# EAGLE library part STM8S105C (library st-microelectronics)
Access line, 16 MHz STM8S 8-bit MCU up to 32 Kbytes Flash, integrated EEPROM,10-bit ADC, timers, UART, SPI, I²C Source: Data sheet <http://www.st.com/stonline/products/literature/ds/14771/stm8s105c4.pdf>
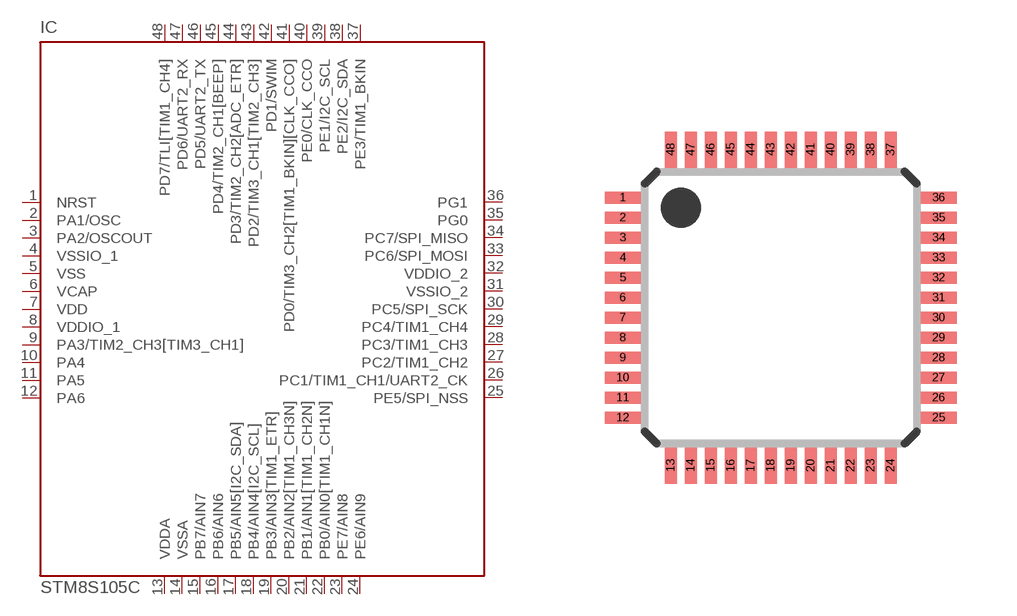
[diagram p42: symbol with the pads of LQFP48-7X7; footprint LQFP48-7X7]

Designator prefix IC

## STM8S105C4, STM8S105C6  [LQFP48-7X7]
1  NRST
2  PA1/OSC
3  PA2/OSCOUT
4  VSSIO_1  pwr
5  VSS  pwr
6  VCAP  pwr
7  VDD  pwr
8  VDDIO_1  pwr
9  PA3/TIM2_CH3[TIM3_CH1]
10  PA4
11  PA5
12  PA6
13  VDDA  pwr
14  VSSA  pwr
15  PB7/AIN7
16  PB6/AIN6
17  PB5/AIN5[I2C_SDA]
18  PB4/AIN4[I2C_SCL]
19  PB3/AIN3[TIM1_ETR]
20  PB2/AIN2[TIM1_CH3N]
21  PB1/AIN1[TIM1_CH2N]
22  PB0/AIN0[TIM1_CH1N]
23  PE7/AIN8
24  PE6/AIN9
25  PE5/SPI_NSS
26  PC1/TIM1_CH1/UART2_CK
27  PC2/TIM1_CH2
28  PC3/TIM1_CH3
29  PC4/TIM1_CH4
30  PC5/SPI_SCK
31  VSSIO_2  pwr
32  VDDIO_2  pwr
33  PC6/SPI_MOSI
34  PC7/SPI_MISO
35  PG0
36  PG1
37  PE3/TIM1_BKIN
38  PE2/I2C_SDA
39  PE1/I2C_SCL
40  PE0/CLK_CCO
41  PD0/TIM3_CH2[TIM1_BKIN][CLK_CCO]
42  PD1/SWIM
43  PD2/TIM3_CH1[TIM2_CH3]
44  PD3/TIM2_CH2[ADC_ETR]
45  PD4/TIM2_CH1[BEEP]
46  PD5/UART2_TX
47  PD6/UART2_RX
48  PD7/TLI[TIM1_CH4]

## Footprint LQFP48-7X7 (pad centres in mm)
48-pin low profile quad flat package (7 x 7) Source: Data sheet <http://www.st.com/stonline/products/literature/ds/14771/stm8s105c4.pdf>
smd 0.9 x 0.3: 1 -3.95,2.75; 2 -3.95,2.25; 3 -3.95,1.75; 4 -3.95,1.25; 5 -3.95,0.75; 6 -3.95,0.25; 7 -3.95,-0.25; 8 -3.95,-0.75; 9 -3.95,-1.25; 10 -3.95,-1.75; 11 -3.95,-2.25; 12 -3.95,-2.75; 25 3.95,-2.75; 26 3.95,-2.25; 27 3.95,-1.75; 28 3.95,-1.25; 29 3.95,-0.75; 30 3.95,-0.25; 31 3.95,0.25; 32 3.95,0.75; 33 3.95,1.25; 34 3.95,1.75; 35 3.95,2.25; 36 3.95,2.75
smd 0.3 x 0.9: 13 -2.75,-3.95; 14 -2.25,-3.95; 15 -1.75,-3.95; 16 -1.25,-3.95; 17 -0.75,-3.95; 18 -0.25,-3.95; 19 0.25,-3.95; 20 0.75,-3.95; 21 1.25,-3.95; 22 1.75,-3.95; 23 2.25,-3.95; 24 2.75,-3.95; 37 2.75,3.95; 38 2.25,3.95; 39 1.75,3.95; 40 1.25,3.95; 41 0.75,3.95; 42 0.25,3.95; 43 -0.25,3.95; 44 -0.75,3.95; 45 -1.25,3.95; 46 -1.75,3.95; 47 -2.25,3.95; 48 -2.75,3.95